# Altium footprint library ERJ-6ENF7322V.PcbLib: 3 footprints
Each footprint in its own frame and in the unit in brackets; x right, y up, seen from the top. Pads: shape width x height; smd on the part's side, far side on the other; paste and mask are expansions set on the pad; w line width, h text height; cw(c..) or ccw(c..) is an arc to the next point about the centre after c.
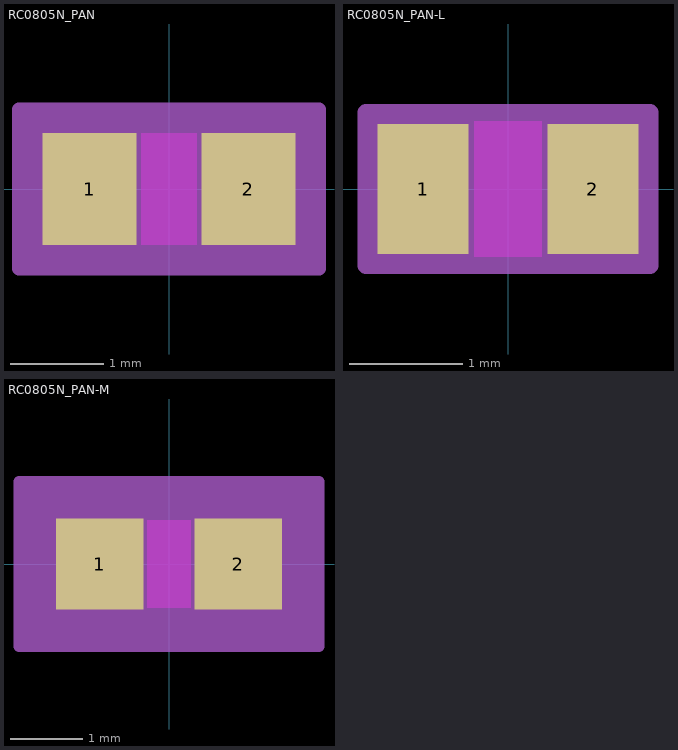
[diagram p0: the footprints below, top view; thin cyan lines are the x and y axes]

## RC0805N_PAN [mm]
pads (2):
  rect 1.006x1.2 smd paste+0 mask+0: 1(-0.853,0) 2(0.853,0)
Top Layer keep-out:
  region: -0.299,-0.549 -0.299,0.549 0.299,0.549 0.299,-0.549
Top Overlay:
  text ".Designator" at -3.492,-0.635 h1.27
Keep-Out Layer:
  region: -0.299,-0.6 -0.299,0.6 0.299,0.6 0.299,-0.6
Mechanical 13:
  lines w0.025: -1,-0.6 -1,0.6 ; -1,-0.6 -0.35,-0.6 -0.35,0.6 -1,0.6 ; -1,-0.6 1,-0.6 ; -1,-0.6 -1,0.6 ; -1,0.6 1,0.6 ; 1,-0.6 0.35,-0.6 0.35,0.6 1,0.6 ; 1,-0.6 1,0.6 ; 1,-0.6 1,0.6
  text ".Designator" at -3.492,-0.635 h1.27
Mechanical 15:
  region: 1.61,-0.854 -1.61,-0.854 -1.61,0.854 1.61,0.854
  lines w0.152: -1.61,-0.854 -1.61,0.854 1.61,0.854 1.61,-0.854 -1.61,-0.854
3D body "RC0805N_PAN.step": height 0.71, standoff 0, extent -1,-0.6 1,0.6

## RC0805N_PAN-L [mm]
pads (2):
  rect 0.802x1.149 smd paste+0 mask+0: 1(-0.751,0) 2(0.751,0)
Top Layer keep-out:
  region: -0.299,-0.549 -0.299,0.549 0.299,0.549 0.299,-0.549
Top Overlay:
  text ".Designator" at -3.492,-0.635 h1.27
Keep-Out Layer:
  region: -0.299,-0.6 -0.299,0.6 0.299,0.6 0.299,-0.6
Mechanical 13:
  lines w0.025: -1,-0.6 -1,0.6 ; -1,-0.6 -0.35,-0.6 -0.35,0.6 -1,0.6 ; -1,-0.6 1,-0.6 ; -1,-0.6 -1,0.6 ; -1,0.6 1,0.6 ; 1,-0.6 0.35,-0.6 0.35,0.6 1,0.6 ; 1,-0.6 1,0.6 ; 1,-0.6 1,0.6
  text ".Designator" at -3.492,-0.635 h1.27
Mechanical 15:
  region: 1.254,-0.676 -1.254,-0.676 -1.254,0.676 1.254,0.676
  lines w0.152: -1.254,-0.676 -1.254,0.676 1.254,0.676 1.254,-0.676 -1.254,-0.676
3D body "RC0805N_PAN.step": height 0.71, standoff 0, extent -1,-0.6 1,0.6

## RC0805N_PAN-M [mm]
pads (2):
  rect 1.209x1.251 smd paste+0 mask+0: 1(-0.954,0) 2(0.954,0)
Top Layer keep-out:
  region: -0.299,-0.549 -0.299,0.549 0.299,0.549 0.299,-0.549
Top Overlay:
  text ".Designator" at -3.492,-0.635 h1.27
Keep-Out Layer:
  region: -0.299,-0.6 -0.299,0.6 0.299,0.6 0.299,-0.6
Mechanical 13:
  lines w0.025: -1,-0.6 -1,0.6 ; -1,-0.6 -0.35,-0.6 -0.35,0.6 -1,0.6 ; -1,-0.6 1,-0.6 ; -1,-0.6 -1,0.6 ; -1,0.6 1,0.6 ; 1,-0.6 0.35,-0.6 0.35,0.6 1,0.6 ; 1,-0.6 1,0.6 ; 1,-0.6 1,0.6
  text ".Designator" at -3.492,-0.635 h1.27
Mechanical 15:
  region: 2.067,-1.133 -2.067,-1.133 -2.067,1.133 2.067,1.133
  lines w0.152: -2.067,-1.133 -2.067,1.133 2.067,1.133 2.067,-1.133 -2.067,-1.133
3D body "RC0805N_PAN.step": height 0.71, standoff 0, extent -1,-0.6 1,0.6